# EAGLE library part ESP32WROOM36 (library ESP32WROOM36)
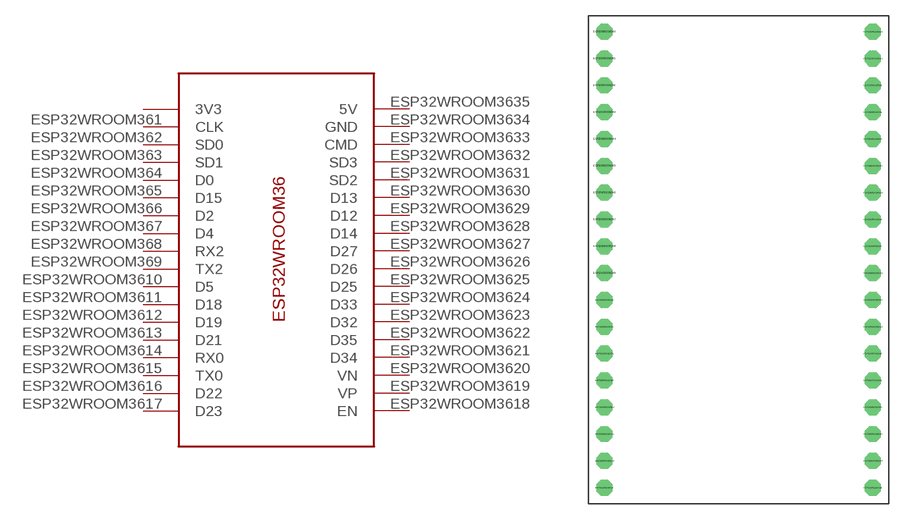
[diagram p0: symbol with the pads of ESP32WROOM36PINDIP; footprint ESP32WROOM36PINDIP]

Designator prefix -

## ESP32WROOM36  [ESP32WROOM36PINDIP]
ESP32WROOM360  3V3
ESP32WROOM361  CLK
ESP32WROOM362  SD0
ESP32WROOM363  SD1
ESP32WROOM364  D0
ESP32WROOM365  D15
ESP32WROOM366  D2
ESP32WROOM367  D4
ESP32WROOM368  RX2
ESP32WROOM369  TX2
ESP32WROOM3610  D5
ESP32WROOM3611  D18
ESP32WROOM3612  D19
ESP32WROOM3613  D21
ESP32WROOM3614  RX0
ESP32WROOM3615  TX0
ESP32WROOM3616  D22
ESP32WROOM3617  D23
ESP32WROOM3618  EN
ESP32WROOM3619  VP
ESP32WROOM3620  VN
ESP32WROOM3621  D34
ESP32WROOM3622  D35
ESP32WROOM3623  D32
ESP32WROOM3624  D33
ESP32WROOM3625  D25
ESP32WROOM3626  D26
ESP32WROOM3627  D27
ESP32WROOM3628  D14
ESP32WROOM3629  D12
ESP32WROOM3630  D13
ESP32WROOM3631  SD2
ESP32WROOM3632  SD3
ESP32WROOM3633  CMD
ESP32WROOM3634  GND
ESP32WROOM3635  5V

## Footprint ESP32WROOM36PINDIP (pad centres in mm)
drill 1 octagon: ESP32WROOM360 -21.59,15.24; ESP32WROOM361 -21.59,12.7; ESP32WROOM362 -21.59,10.16; ESP32WROOM363 -21.59,7.62; ESP32WROOM364 -21.59,5.08; ESP32WROOM365 -21.59,2.54; ESP32WROOM366 -21.59,0; ESP32WROOM367 -21.59,-2.54; ESP32WROOM368 -21.59,-5.08; ESP32WROOM369 -21.59,-7.62; ESP32WROOM3610 -21.59,-10.16; ESP32WROOM3611 -21.59,-12.7; ESP32WROOM3612 -21.59,-15.24; ESP32WROOM3613 -21.59,-17.78; ESP32WROOM3614 -21.59,-20.32; ESP32WROOM3615 -21.59,-22.86; ESP32WROOM3616 -21.59,-25.4; ESP32WROOM3617 -21.59,-27.94; ESP32WROOM3618 3.81,-27.94; ESP32WROOM3619 3.81,-25.4; ESP32WROOM3620 3.81,-22.86; ESP32WROOM3621 3.81,-20.32; ESP32WROOM3622 3.81,-17.78; ESP32WROOM3623 3.81,-15.24; ESP32WROOM3624 3.81,-12.7; ESP32WROOM3625 3.81,-10.16; ESP32WROOM3626 3.81,-7.62; ESP32WROOM3627 3.81,-5.08; ESP32WROOM3628 3.81,-2.54; ESP32WROOM3629 3.81,0; ESP32WROOM3630 3.81,2.54; ESP32WROOM3631 3.81,5.08; ESP32WROOM3632 3.81,7.62; ESP32WROOM3633 3.81,10.16; ESP32WROOM3634 3.81,12.7; ESP32WROOM3635 3.81,15.24